# EAGLE library part QSBT40 (library aq-diode)
QUAD DATA LINE SCHOTTKY BUS TERMINATOR
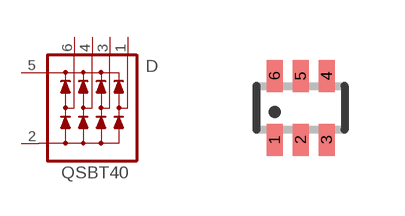
[diagram p7: symbol with the pads of SOT363; footprint SOT363]

Designator prefix D

## QSBT40  [SOT363]
1  DL4  pas
2  GND  pas
3  DL3  pas
4  DL2  pas
5  VCC  pas
6  DL1  pas

## Footprint SOT363 (pad centres in mm)
Small Outline Transistor; 6 leads
smd 0.4 x 0.8: 1 -0.65,-0.8; 2 0,-0.8; 3 0.65,-0.8; 4 0.65,0.8; 5 0,0.8; 6 -0.65,0.8